# Altium footprint library SamacSys2.PcbLib: 4 footprints
Each footprint in its own frame and in the unit in brackets; x right, y up, seen from the top. Pads: shape width x height; smd on the part's side, far side on the other; paste and mask are expansions set on the pad; w line width, h text height; cw(c..) or ccw(c..) is an arc to the next point about the centre after c.
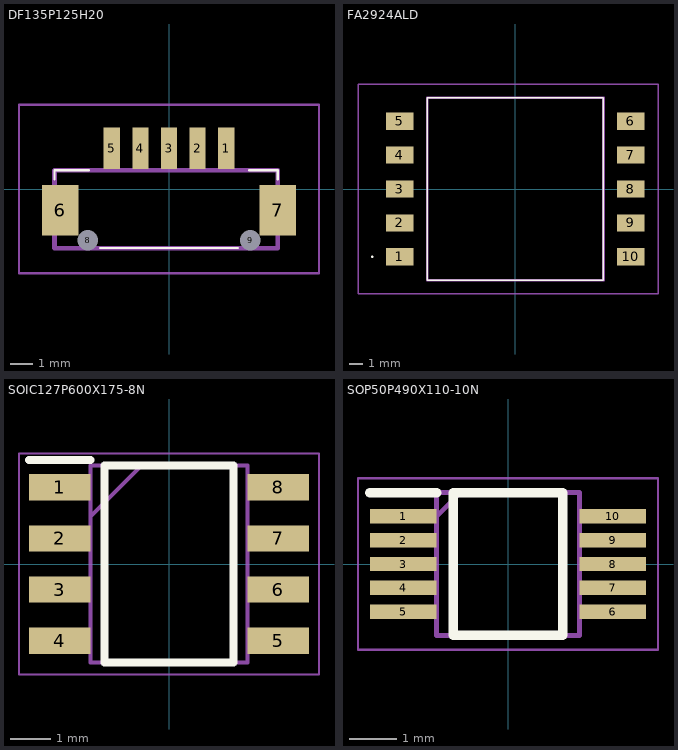
[diagram p0: the footprints below, top view; thin cyan lines are the x and y axes]

## DF135P125H20 [mm]
pads (9):
  rect 0.7x1.8 smd: 1(2.5,1.78) 2(1.25,1.78) 3(0,1.78) 4(-1.25,1.78) 5(-2.5,1.78)
  rect 1.6x2.2 smd: 6(-4.75,-0.93) 7(4.75,-0.93)
  round 0.45 hole 0.9 unplated: 8(-3.55,-2.23) 9(3.55,-2.23)
Top Overlay:
  lines w0.1: -5,0.42 -5,0.82 -3.5,0.82 ; -3,-2.58 3,-2.58 ; 3.5,0.82 4.75,0.82 4.75,0.42
Mechanical 13:
  lines w0.2: -5,-2.58 -5,0.82 4.75,0.82 4.75,-2.58 -5,-2.58
Mechanical 15:
  lines w0.1: -6.55,-3.68 -6.55,3.68 6.55,3.68 6.55,-3.68 -6.55,-3.68
3D body "DF13-5P-1.25H_20_.stp": height 15.45, standoff 4.55, extent 17.07,-0.635 23.57,3.765

## FA2924ALD [mm]
pads (10):
  rect 2.03x1.27 smd: 1(-8.51,-5) 2(-8.51,-2.5) 3(-8.51,0) 4(-8.51,2.5) 5(-8.51,5) 6(8.51,5) 7(8.51,2.5) 8(8.51,0) 9(8.51,-2.5) 10(8.51,-5)
Top Overlay:
  lines w0.1: -10.6,-5 ccw(c-10.55,-5) -10.5,-5 ; -10.6,-5 cw(c-10.55,-5) -10.5,-5 ; -10.6,-5 ccw(c-10.55,-5) -10.5,-5 ; -6.5,-6.73 -6.5,6.73 6.5,6.73 6.5,-6.73 -6.5,-6.73
Mechanical 13:
  lines w0.2: -6.5,-6.73 -6.5,6.73 6.5,6.73 6.5,-6.73 -6.5,-6.73
Mechanical 15:
  lines w0.1: -11.6,-7.73 -11.6,7.73 10.525,7.73 10.525,-7.73 -11.6,-7.73

## SOIC127P600X175-8N [mm]
pads (8):
  rect 1.525x0.65 smd: 1(-2.712,1.905) 2(-2.712,0.635) 3(-2.712,-0.635) 4(-2.712,-1.905) 5(2.712,-1.905) 6(2.712,-0.635) 7(2.712,0.635) 8(2.712,1.905)
Top Overlay:
  lines w0.2: -3.475,2.58 -1.95,2.58 ; -1.6,-2.45 1.6,-2.45 1.6,2.45 -1.6,2.45 -1.6,-2.45
Mechanical 13:
  lines w0.1: -1.95,1.18 -0.68,2.45 ; -1.95,-2.45 1.95,-2.45 1.95,2.45 -1.95,2.45 -1.95,-2.45
Mechanical 15:
  lines w0.05: -3.725,-2.75 3.725,-2.75 3.725,2.75 -3.725,2.75 -3.725,-2.75
3D body "NE555DR.stp": height 1.75, standoff 0, extent -3,-2.45 3,2.45

## SOP50P490X110-10N [mm]
pads (10):
  rect 1.4x0.3 smd: 1(-2.2,1) 2(-2.2,0.5) 3(-2.2,0) 4(-2.2,-0.5) 5(-2.2,-1) 6(2.2,-1) 7(2.2,-0.5) 8(2.2,0) 9(2.2,0.5) 10(2.2,1)
Top Overlay:
  lines w0.2: -2.9,1.5 -1.5,1.5 ; -1.15,-1.5 1.15,-1.5 1.15,1.5 -1.15,1.5 -1.15,-1.5
Mechanical 13:
  lines w0.1: -1.5,1 -1,1.5 ; -1.5,-1.5 1.5,-1.5 1.5,1.5 -1.5,1.5 -1.5,-1.5
Mechanical 15:
  lines w0.05: -3.15,-1.8 3.15,-1.8 3.15,1.8 -3.15,1.8 -3.15,-1.8
3D body "ADS8866IDGSR.stp": height 1.1, standoff 0, extent -2.45,-1.5 2.45,1.5